# Altium schematic symbol library SCH - MCU - ATSAM - MICROCHIP SAMC21G18A-MZ QFN48.SchLib: 1 symbol
Pins are listed as number, name and electrical type; pins without a type are passive.

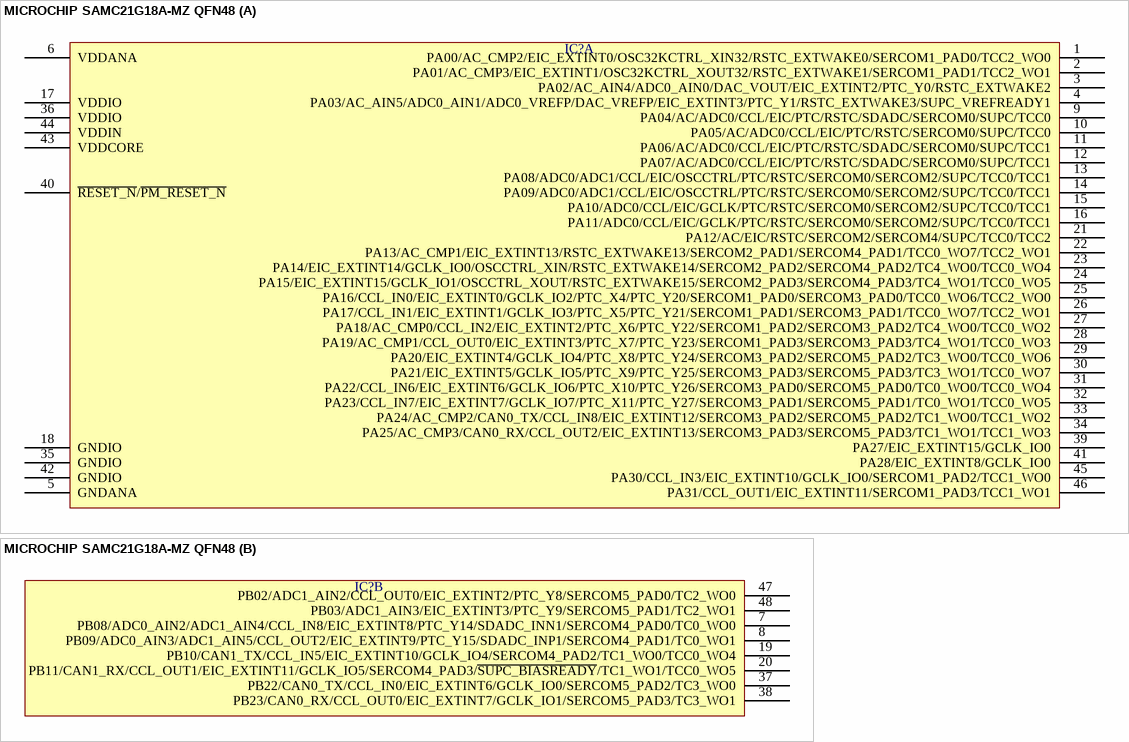
[diagram p0: symbol MICROCHIP SAMC21G18A-MZ QFN48]

## MICROCHIP SAMC21G18A-MZ QFN48
designator IC?  (value not drawn)
part A pins: 1 PA00/AC_CMP2/EIC_EXTINT0/OSC32KCTRL_XIN32/RSTC_EXTWAKE0/SERCOM1_PAD0/TCC2_WO0, 2 PA01/AC_CMP3/EIC_EXTINT1/OSC32KCTRL_XOUT32/RSTC_EXTWAKE1/SERCOM1_PAD1/TCC2_WO1, 3 PA02/AC_AIN4/ADC0_AIN0/DAC_VOUT/EIC_EXTINT2/PTC_Y0/RSTC_EXTWAKE2, 4 PA03/AC_AIN5/ADC0_AIN1/ADC0_VREFP/DAC_VREFP/EIC_EXTINT3/PTC_Y1/RSTC_EXTWAKE3/SUPC_VREFREADY1, 5 GNDANA, 6 VDDANA, 9 PA04/AC/ADC0/CCL/EIC/PTC/RSTC/SDADC/SERCOM0/SUPC/TCC0, 10 PA05/AC/ADC0/CCL/EIC/PTC/RSTC/SERCOM0/SUPC/TCC0, 11 PA06/AC/ADC0/CCL/EIC/PTC/RSTC/SDADC/SERCOM0/SUPC/TCC1, 12 PA07/AC/ADC0/CCL/EIC/PTC/RSTC/SDADC/SERCOM0/SUPC/TCC1, 13 PA08/ADC0/ADC1/CCL/EIC/OSCCTRL/PTC/RSTC/SERCOM0/SERCOM2/SUPC/TCC0/TCC1, 14 PA09/ADC0/ADC1/CCL/EIC/OSCCTRL/PTC/RSTC/SERCOM0/SERCOM2/SUPC/TCC0/TCC1, 15 PA10/ADC0/CCL/EIC/GCLK/PTC/RSTC/SERCOM0/SERCOM2/SUPC/TCC0/TCC1, 16 PA11/ADC0/CCL/EIC/GCLK/PTC/RSTC/SERCOM0/SERCOM2/SUPC/TCC0/TCC1, 17 VDDIO, 18 GNDIO, 21 PA12/AC/EIC/RSTC/SERCOM2/SERCOM4/SUPC/TCC0/TCC2, 22 PA13/AC_CMP1/EIC_EXTINT13/RSTC_EXTWAKE13/SERCOM2_PAD1/SERCOM4_PAD1/TCC0_WO7/TCC2_WO1, 23 PA14/EIC_EXTINT14/GCLK_IO0/OSCCTRL_XIN/RSTC_EXTWAKE14/SERCOM2_PAD2/SERCOM4_PAD2/TC4_WO0/TCC0_WO4, 24 PA15/EIC_EXTINT15/GCLK_IO1/OSCCTRL_XOUT/RSTC_EXTWAKE15/SERCOM2_PAD3/SERCOM4_PAD3/TC4_WO1/TCC0_WO5, 25 PA16/CCL_IN0/EIC_EXTINT0/GCLK_IO2/PTC_X4/PTC_Y20/SERCOM1_PAD0/SERCOM3_PAD0/TCC0_WO6/TCC2_WO0, 26 PA17/CCL_IN1/EIC_EXTINT1/GCLK_IO3/PTC_X5/PTC_Y21/SERCOM1_PAD1/SERCOM3_PAD1/TCC0_WO7/TCC2_WO1, 27 PA18/AC_CMP0/CCL_IN2/EIC_EXTINT2/PTC_X6/PTC_Y22/SERCOM1_PAD2/SERCOM3_PAD2/TC4_WO0/TCC0_WO2, 28 PA19/AC_CMP1/CCL_OUT0/EIC_EXTINT3/PTC_X7/PTC_Y23/SERCOM1_PAD3/SERCOM3_PAD3/TC4_WO1/TCC0_WO3, 29 PA20/EIC_EXTINT4/GCLK_IO4/PTC_X8/PTC_Y24/SERCOM3_PAD2/SERCOM5_PAD2/TC3_WO0/TCC0_WO6, 30 PA21/EIC_EXTINT5/GCLK_IO5/PTC_X9/PTC_Y25/SERCOM3_PAD3/SERCOM5_PAD3/TC3_WO1/TCC0_WO7, 31 PA22/CCL_IN6/EIC_EXTINT6/GCLK_IO6/PTC_X10/PTC_Y26/SERCOM3_PAD0/SERCOM5_PAD0/TC0_WO0/TCC0_WO4, 32 PA23/CCL_IN7/EIC_EXTINT7/GCLK_IO7/PTC_X11/PTC_Y27/SERCOM3_PAD1/SERCOM5_PAD1/TC0_WO1/TCC0_WO5, 33 PA24/AC_CMP2/CAN0_TX/CCL_IN8/EIC_EXTINT12/SERCOM3_PAD2/SERCOM5_PAD2/TC1_WO0/TCC1_WO2, 34 PA25/AC_CMP3/CAN0_RX/CCL_OUT2/EIC_EXTINT13/SERCOM3_PAD3/SERCOM5_PAD3/TC1_WO1/TCC1_WO3, 35 GNDIO, 36 VDDIO, 39 PA27/EIC_EXTINT15/GCLK_IO0, 40 ~{RESET_N}/~{PM_RESET_N}, 41 PA28/EIC_EXTINT8/GCLK_IO0, 42 GNDIO, 43 VDDCORE, 44 VDDIN, 45 PA30/CCL_IN3/EIC_EXTINT10/GCLK_IO0/SERCOM1_PAD2/TCC1_WO0, 46 PA31/CCL_OUT1/EIC_EXTINT11/SERCOM1_PAD3/TCC1_WO1
part B pins: 7 PB08/ADC0_AIN2/ADC1_AIN4/CCL_IN8/EIC_EXTINT8/PTC_Y14/SDADC_INN1/SERCOM4_PAD0/TC0_WO0, 8 PB09/ADC0_AIN3/ADC1_AIN5/CCL_OUT2/EIC_EXTINT9/PTC_Y15/SDADC_INP1/SERCOM4_PAD1/TC0_WO1, 19 PB10/CAN1_TX/CCL_IN5/EIC_EXTINT10/GCLK_IO4/SERCOM4_PAD2/TC1_WO0/TCC0_WO4, 20 PB11/CAN1_RX/CCL_OUT1/EIC_EXTINT11/GCLK_IO5/SERCOM4_PAD3/~{SUPC_BIASREADY}/TC1_WO1/TCC0_WO5, 37 PB22/CAN0_TX/CCL_IN0/EIC_EXTINT6/GCLK_IO0/SERCOM5_PAD2/TC3_WO0, 38 PB23/CAN0_RX/CCL_OUT0/EIC_EXTINT7/GCLK_IO1/SERCOM5_PAD3/TC3_WO1, 47 PB02/ADC1_AIN2/CCL_OUT0/EIC_EXTINT2/PTC_Y8/SERCOM5_PAD0/TC2_WO0, 48 PB03/ADC1_AIN3/EIC_EXTINT3/PTC_Y9/SERCOM5_PAD1/TC2_WO1